# EAGLE library part L6225D (library 000_VansAircraft)
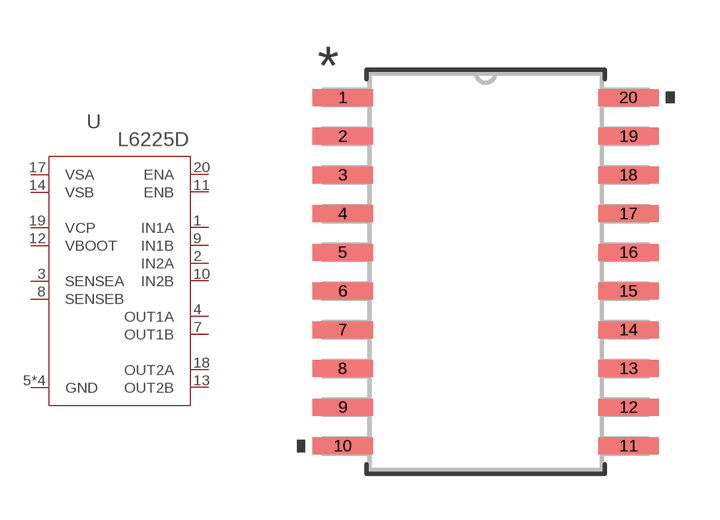
[diagram p4: symbol with the pads of SO-20_STM; footprint SO-20_STM]

Designator prefix U

## L6225D (COPYRIGHT: Copyright (C) 2025 Ultra Librarian. All rights reserved.; DATASHEET: https://www.st.com/resource/en/datasheet/l6225.pdf; DESCRIPTION: DMOS DUAL FULL BRIDGE DRIVER; MANUFACTURER_NAME: STMicroelectronics; MANUFACTURER_PART_NUMBER: L6225D)  [SO-20_STM]
1  IN1A  in
2  IN2A  in
3  SENSEA  pwr
4  OUT1A  out
5  GND  pas
6  GND  pas
7  OUT1B  out
8  SENSEB  pwr
9  IN1B  in
10  IN2B  in
11  ENB  in
12  VBOOT  pwr
13  OUT2B  out
14  VSB  pwr
15  GND  pas
16  GND  pas
17  VSA  pwr
18  OUT2A  out
19  VCP  pwr
20  ENA  in

## Footprint SO-20_STM (pad centres in mm)
smd 1.981 x 0.559: 1 -4.686,5.715; 2 -4.686,4.445; 3 -4.686,3.175; 4 -4.686,1.905; 5 -4.686,0.635; 6 -4.686,-0.635; 7 -4.686,-1.905; 8 -4.686,-3.175; 9 -4.686,-4.445; 10 -4.686,-5.715; 11 4.686,-5.715; 12 4.686,-4.445; 13 4.686,-3.175; 14 4.686,-1.905; 15 4.686,-0.635; 16 4.686,0.635; 17 4.686,1.905; 18 4.686,3.175; 19 4.686,4.445; 20 4.686,5.715